# EAGLE library part NMJ6HCD3 (library con_neutrik_ag__Jack6,35)
1/4" stereo jack, switched, with chrome ferrule and offset PCB pins Mounting nut included
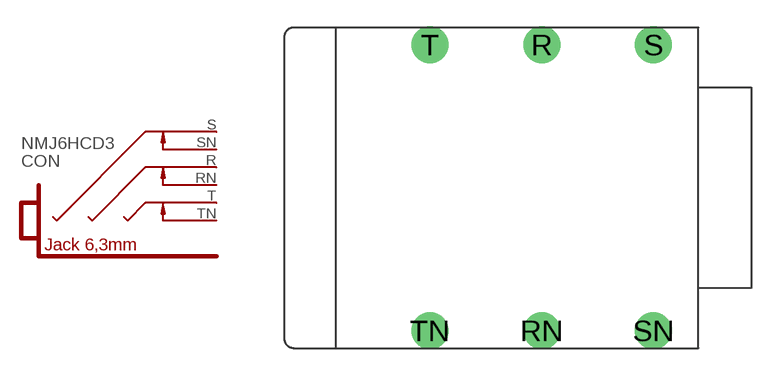
[diagram p8: symbol with the pads of NMJ6HCD3; footprint NMJ6HCD3]

Designator prefix CON

## NMJ6HCD3  [NMJ6HCD3]
R  R  pas
RN  RN  pas
S  S  pas
SN  SN  pas
T  T  pas
TN  TN  pas

## Footprint NMJ6HCD3 (pad centres in mm)
drill 1.4 round: R -8.9,8.115; RN -8.9,-8.115; S -2.55,8.115; SN -2.55,-8.115; T -15.25,8.115; TN -15.25,-8.115